# EAGLE library part ST26C32ABDR (library Quadruple Line Receiver)
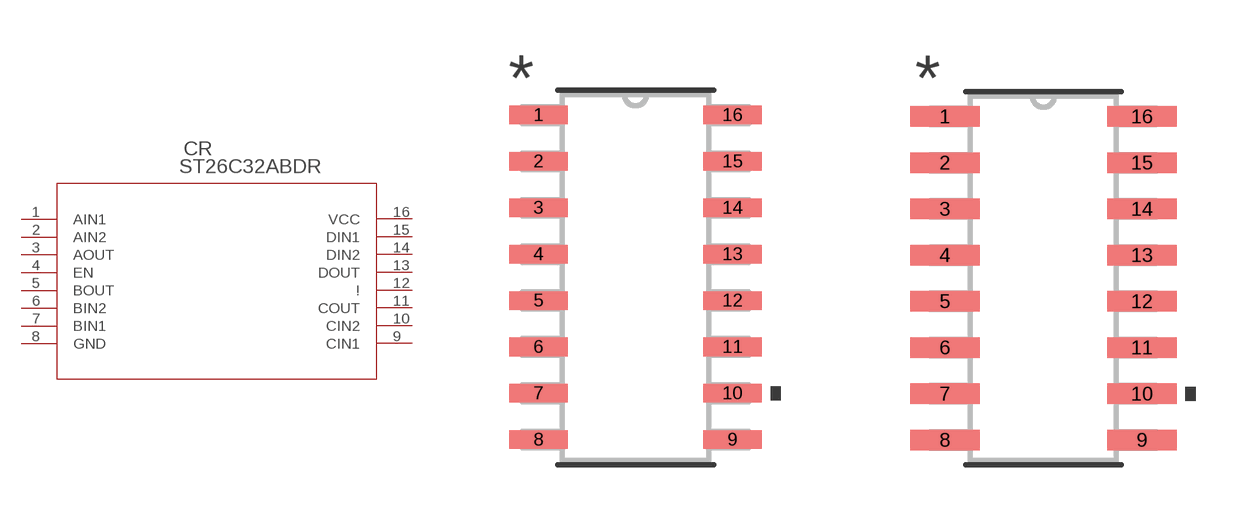
[diagram p0: symbol with the pads of SO-16; footprints SO-16, SO-16-M]

Designator prefix CR

## ST26C32ABDR (BUILT_BY: EMA_UL_Team; MANUFACTURER_PART_NUMBER: ST26C32ABDR; VENDOR: STMicroelectronics)  [SO-16]
1  AIN1  in
2  AIN2  in
3  AOUT  out
4  EN  pas
5  BOUT  out
6  BIN2  in
7  BIN1  in
8  GND  pwr
9  CIN1  in
10  CIN2  in
11  COUT  out
12  !  pas
13  DOUT  out
14  DIN2  in
15  DIN1  in
16  VCC  pwr

## ST26C32ABDRSO-16-M (BUILT_BY: EMA_UL_Team; MANUFACTURER_PART_NUMBER: ST26C32ABDR; VENDOR: STMicroelectronics)  [SO-16-M]
Pads as for SO-16

## ST26C32ABDRSO-16-L (BUILT_BY: EMA_UL_Team; MANUFACTURER_PART_NUMBER: ST26C32ABDR; VENDOR: STMicroelectronics)  [SO-16-L]
Pads as for SO-16

## Footprint SO-16 (pad centres in mm)
smd 1.6 x 0.508: 1 -2.654,4.445; 2 -2.654,3.175; 3 -2.654,1.905; 4 -2.654,0.635; 5 -2.654,-0.635; 6 -2.654,-1.905; 7 -2.654,-3.175; 8 -2.654,-4.445; 9 2.654,-4.445; 10 2.654,-3.175; 11 2.654,-1.905; 12 2.654,-0.635; 13 2.654,0.635; 14 2.654,1.905; 15 2.654,3.175; 16 2.654,4.445

## Footprint SO-16-M (pad centres in mm)
smd 1.905 x 0.559: 1 -2.705,4.445; 2 -2.705,3.175; 3 -2.705,1.905; 4 -2.705,0.635; 5 -2.705,-0.635; 6 -2.705,-1.905; 7 -2.705,-3.175; 8 -2.705,-4.445; 9 2.705,-4.445; 10 2.705,-3.175; 11 2.705,-1.905; 12 2.705,-0.635; 13 2.705,0.635; 14 2.705,1.905; 15 2.705,3.175; 16 2.705,4.445

## Footprint SO-16-L (pad centres in mm)
smd 1.295 x 0.457: 1 -2.603,4.445; 2 -2.603,3.175; 3 -2.603,1.905; 4 -2.603,0.635; 5 -2.603,-0.635; 6 -2.603,-1.905; 7 -2.603,-3.175; 8 -2.603,-4.445; 9 2.603,-4.445; 10 2.603,-3.175; 11 2.603,-1.905; 12 2.603,-0.635; 13 2.603,0.635; 14 2.603,1.905; 15 2.603,3.175; 16 2.603,4.445